# Altium footprint library RES(10K, SMD-0603).PcbLib: 3 footprints
Each footprint in its own frame and in the unit in brackets; x right, y up, seen from the top. Pads: shape width x height; smd on the part's side, far side on the other; paste and mask are expansions set on the pad; w line width, h text height; cw(c..) or ccw(c..) is an arc to the next point about the centre after c.
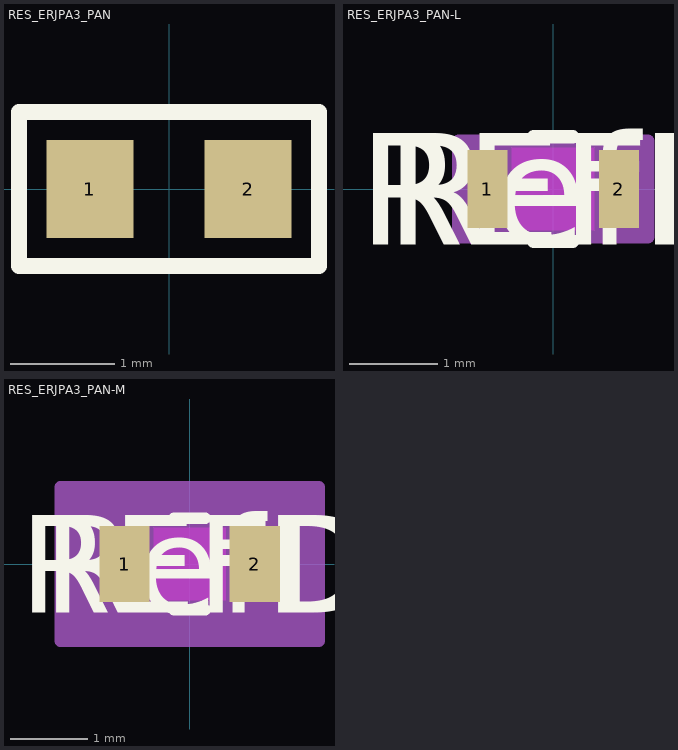
[diagram p0: the footprints below, top view; thin cyan lines are the x and y axes]

## RES_ERJPA3_PAN [mil]
pads (2):
  rect 33x37 smd paste+0 mask+0: 1(-30,0) 2(30,0)
Top Overlay:
  lines w6: -56.85,-29.13 -56.85,29.13 56.85,29.13 56.85,-29.13 -56.85,-29.13
3D body "CRCW0603100KFHEAP.STEP": height 21.65, standoff 0, extent -30.51,-16.73 30.51,16.73

## RES_ERJPA3_PAN-L [mil]
pads (2):
  rect 17.94x35.03 smd paste+0 mask+0: 1(-29.47,0) 2(29.47,0)
Top Layer keep-out:
  region: -18.5,-16.5 -18.5,16.5 18.5,16.5 18.5,-16.5
Top Overlay:
  lines w6: -8.85,-23.5 8.85,-23.5 ; -8.85,23.5 8.85,23.5
  text "RefDes" at -75,-25 h50
  text "REFDES" at -87.5,-25 h50
Keep-Out Layer:
  region: -18.5,-18.5 -18.5,18.5 18.5,18.5 18.5,-18.5
Mechanical 13:
  lines w1: -34.5,-18.5 -34.5,18.5 ; -34.5,-18.5 -20.5,-18.5 -20.5,18.5 -34.5,18.5 ; -34.5,-18.5 34.5,-18.5 ; -34.5,-18.5 -34.5,18.5 ; -34.5,18.5 34.5,18.5 ; 34.5,-18.5 20.5,-18.5 20.5,18.5 34.5,18.5 ; 34.5,-18.5 34.5,18.5 ; 34.5,-18.5 34.5,18.5
  text "RefDes2" at -87.5,-25 h50
Mechanical 15:
  region: 42.44,-21.52 -42.44,-21.52 -42.44,21.52 42.44,21.52
  lines w6: -42.44,-21.52 -42.44,21.52 42.44,21.52 42.44,-21.52 -42.44,-21.52
3D body "RES_ERJPA3_PAN.step": height 22.01, standoff 0, extent -34.49,-18.5 34.49,18.5

## RES_ERJPA3_PAN-M [mil]
pads (2):
  rect 25.81x38.97 smd paste+0 mask+0: 1(-33.41,0) 2(33.41,0)
Top Layer keep-out:
  region: -18.5,-16.5 -18.5,16.5 18.5,16.5 18.5,-16.5
Top Overlay:
  lines w6: -8.03,-23.5 8.03,-23.5 ; -8.03,23.5 8.03,23.5
  text "RefDes" at -75,-25 h50
  text "REFDES" at -87.5,-25 h50
Keep-Out Layer:
  region: -18.5,-18.5 -18.5,18.5 18.5,18.5 18.5,-18.5
Mechanical 13:
  lines w1: -34.5,-18.5 -34.5,18.5 ; -34.5,-18.5 -20.5,-18.5 -20.5,18.5 -34.5,18.5 ; -34.5,-18.5 34.5,-18.5 ; -34.5,-18.5 -34.5,18.5 ; -34.5,18.5 34.5,18.5 ; 34.5,-18.5 20.5,-18.5 20.5,18.5 34.5,18.5 ; 34.5,-18.5 34.5,18.5 ; 34.5,-18.5 34.5,18.5
  text "RefDes2" at -87.5,-25 h50
Mechanical 15:
  region: 66.31,-39.48 -66.31,-39.48 -66.31,39.48 66.31,39.48
  lines w6: -66.31,-39.48 -66.31,39.48 66.31,39.48 66.31,-39.48 -66.31,-39.48
3D body "RES_ERJPA3_PAN.step": height 22.01, standoff 0, extent -34.49,-18.5 34.49,18.5